# Altium footprint library CPU.PcbLib: 75 footprints (part 5 of 5)
Each footprint in its own frame and in the unit in brackets; x right, y up, seen from the top. Pads: shape width x height; smd on the part's side, far side on the other; paste and mask are expansions set on the pad; w line width, h text height; cw(c..) or ccw(c..) is an arc to the next point about the centre after c.
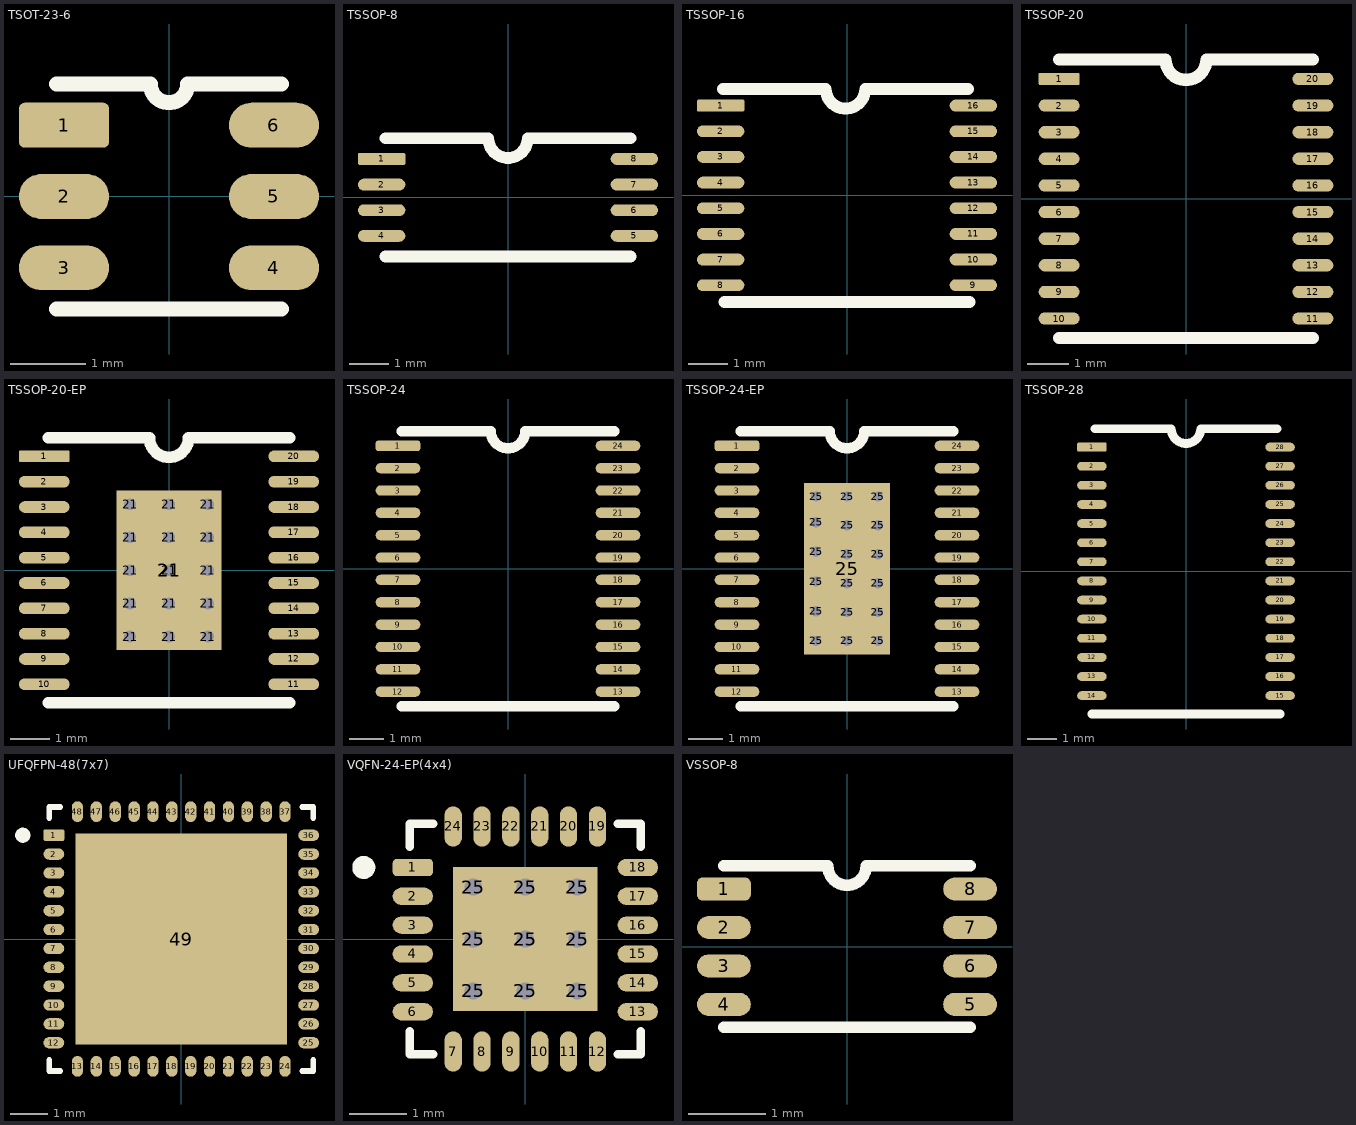
[diagram p4: the footprints below, top view; thin cyan lines are the x and y axes]

## TSOT-23-6 [mm]
pads (6):
  rrect25% 1.2x0.6 smd: 1(-1.4,0.95)
  oval 1.2x0.6 smd: 2(-1.4,0) 3(-1.4,-0.95) 4(1.4,-0.95) 5(1.4,0) 6(1.4,0.95)
Top Overlay:
  lines w0.2: -1.5,-1.5 1.5,-1.5 ; -1.5,1.5 -0.25,1.5 ccw(c0,1.5) 0.25,1.5 1.5,1.5
3D body "TSOT-23-6.STEP": height 1, standoff 0, extent -1.4,-1.45 1.4,1.45

## TSSOP-8 [mm]
pads (8):
  rrect25% 1.2x0.3 smd: 1(-3.2,0.975)
  oval 1.2x0.3 smd: 2(-3.2,0.325) 3(-3.2,-0.325) 4(-3.2,-0.975) 5(3.2,-0.975) 6(3.2,-0.325) 7(3.2,0.325) 8(3.2,0.975)
Top Overlay:
  lines w0.3: -3.1,-1.5 3.1,-1.5 ; -3.1,1.5 -0.5,1.5 ccw(c0,1.5) 0.5,1.5 3.1,1.5
3D body "step_temp.STEP": height 1.2, standoff 0, extent -3.2,-1.5 3.2,1.5

## TSSOP-16 [mm]
pads (16):
  rrect25% 1.2x0.3 smd: 1(-3.2,2.275)
  oval 1.2x0.3 smd: 2(-3.2,1.625) 3(-3.2,0.975) 4(-3.2,0.325) 5(-3.2,-0.325) 6(-3.2,-0.975) 7(-3.2,-1.625) 8(-3.2,-2.275) 9(3.2,-2.275) 10(3.2,-1.625) 11(3.2,-0.975) 12(3.2,-0.325) 13(3.2,0.325) 14(3.2,0.975) 15(3.2,1.625) 16(3.2,2.275)
Top Overlay:
  lines w0.3: -3.138,2.7 -0.538,2.7 ccw(c-0.038,2.7) 0.462,2.7 3.062,2.7 ; -3.1,-2.7 3.1,-2.7
3D body "TSC2003IPWR.step": height 1.2, standoff 0, extent -3.2,-2.5 3.2,2.5

## TSSOP-20 [mm]
pads (20):
  rrect25% 1x0.3 smd: 1(-3.1,2.925)
  oval 1x0.3 smd: 2(-3.1,2.275) 3(-3.1,1.625) 4(-3.1,0.975) 5(-3.1,0.325) 6(-3.1,-0.325) 7(-3.1,-0.975) 8(-3.1,-1.625) 9(-3.1,-2.275) 10(-3.1,-2.925) 11(3.1,-2.925) 12(3.1,-2.275) 13(3.1,-1.625) 14(3.1,-0.975) 15(3.1,-0.325) 16(3.1,0.325) 17(3.1,0.975) 18(3.1,1.625) 19(3.1,2.275) 20(3.1,2.925)
Top Overlay:
  lines w0.3: -3.1,-3.4 3.1,-3.4 ; -3.1,3.4 -0.5,3.4 ccw(c0,3.4) 0.5,3.4 3.1,3.4
3D body "step_temp.STEP": height 1.1, standoff 0, extent -3.2,-3.25 3.2,3.25

## TSSOP-20-EP [mm]
pads (36):
  rrect25% 1.3x0.3 smd: 1(-3.2,2.925)
  oval 1.3x0.3 smd: 2(-3.2,2.275) 3(-3.2,1.625) 4(-3.2,0.975) 5(-3.2,0.325) 6(-3.2,-0.325) 7(-3.2,-0.975) 8(-3.2,-1.625) 9(-3.2,-2.275) 10(-3.2,-2.925) 11(3.2,-2.925) 12(3.2,-2.275) 13(3.2,-1.625) 14(3.2,-0.975) 15(3.2,-0.325) 16(3.2,0.325) 17(3.2,0.975) 18(3.2,1.625) 19(3.2,2.275) 20(3.2,2.925)
  round 0.5 hole 0.3: 21(-1,-1.7) 21(-1,-0.85) 21(-1,0) 21(-1,0.85) 21(-1,1.7) 21(0,-1.7) 21(0,-0.85) 21(0,0) 21(0,0.85) 21(0,1.7) 21(1,-1.7) 21(1,-0.85) 21(1,0) 21(1,0.85) 21(1,1.7)
  rect 2.7x4.1 smd paste-3: 21(0,0)
Top Overlay:
  lines w0.3: -3.1,-3.4 3.1,-3.4 ; -3.1,3.4 -0.5,3.4 ccw(c0,3.4) 0.5,3.4 3.1,3.4
Top Paste:
  region: 0.867,-1.245 -0.867,-1.245 -0.867,1.245 0.867,1.245
3D body "step_temp.STEP": height 1.1, standoff 0, extent -3.2,-3.25 3.2,3.25

## TSSOP-24 [mm]
pads (24):
  rrect50% 1.3x0.3 smd: 1(-3.2,3.575)
  oval 1.3x0.3 smd: 2(-3.2,2.925) 3(-3.2,2.275) 4(-3.2,1.625) 5(-3.2,0.975) 6(-3.2,0.325) 7(-3.2,-0.325) 8(-3.2,-0.975) 9(-3.2,-1.625) 10(-3.2,-2.275) 11(-3.2,-2.925) 12(-3.2,-3.575) 13(3.2,-3.575) 14(3.2,-2.925) 15(3.2,-2.275) 16(3.2,-1.625) 17(3.2,-0.972) 18(3.2,-0.325) 19(3.2,0.325) 20(3.2,0.975) 21(3.2,1.625) 22(3.2,2.275) 23(3.2,2.925) 24(3.2,3.575)
Top Overlay:
  lines w0.3: -3.1,-4 3.1,-4 ; -3.1,4 -0.5,4 ccw(c0,4) 0.5,4 3.1,4
3D body "TSSOP-24.step": height 0.93, standoff 0.01, extent -3.153,-3.95 3.253,3.95

## TSSOP-24-EP [mm]
pads (43):
  rrect50% 1.3x0.3 smd: 1(-3.2,3.575)
  oval 1.3x0.3 smd: 2(-3.2,2.925) 3(-3.2,2.275) 4(-3.2,1.625) 5(-3.2,0.975) 6(-3.2,0.325) 7(-3.2,-0.325) 8(-3.2,-0.975) 9(-3.2,-1.625) 10(-3.2,-2.275) 11(-3.2,-2.925) 12(-3.2,-3.575) 13(3.2,-3.575) 14(3.2,-2.925) 15(3.2,-2.275) 16(3.2,-1.625) 17(3.2,-0.972) 18(3.2,-0.325) 19(3.2,0.325) 20(3.2,0.975) 21(3.2,1.625) 22(3.2,2.275) 23(3.2,2.925) 24(3.2,3.575)
  round 0.5 hole 0.3: 25(-0.9,-2.1) 25(-0.9,-1.236) 25(-0.9,-0.373) 25(-0.9,0.491) 25(-0.9,1.355) 25(-0.9,2.1) 25(0,-2.1) 25(0,-1.26) 25(0,-0.42) 25(0,0.42) 25(0,1.26) 25(0,2.1) 25(0.9,-2.1) 25(0.9,-1.26) 25(0.9,-0.42) 25(0.9,0.42) 25(0.9,1.26) 25(0.9,2.1)
  rect 2.5x5 smd: 25(0,0)
Top Overlay:
  lines w0.3: -3.1,-4 3.1,-4 ; -3.1,4 -0.5,4 ccw(c0,4) 0.5,4 3.1,4
3D body "TSSOP-24.step": height 0.93, standoff 0.01, extent -3.203,-3.95 3.203,3.95

## TSSOP-28 [mm]
pads (28):
  rrect25% 1x0.3 smd paste+0 mask+0.102: 1(-3.2,4.225)
  oval 1x0.3 smd paste+0 mask+0.102: 2(-3.2,3.575) 3(-3.2,2.925) 4(-3.2,2.275) 5(-3.2,1.625) 6(-3.2,0.975) 7(-3.2,0.325) 8(-3.2,-0.325) 9(-3.2,-0.975) 10(-3.2,-1.625) 11(-3.2,-2.275) 12(-3.2,-2.925) 13(-3.2,-3.575) 14(-3.2,-4.225) 15(3.2,-4.225) 16(3.2,-3.575) 17(3.2,-2.925) 18(3.2,-2.275) 19(3.2,-1.625) 20(3.2,-0.975) 21(3.2,-0.325) 22(3.2,0.325) 23(3.2,0.975) 24(3.2,1.625) 25(3.2,2.275) 26(3.2,2.925) 27(3.2,3.575) 28(3.2,4.225)
Top Overlay:
  lines w0.3: -3.2,-4.85 3.2,-4.85 ; -3.1,4.85 -0.5,4.85 ccw(c0,4.85) 0.5,4.85 3.1,4.85
3D body "FT260S-U--3DModel-STEP-455599.STEP": height 1.2, standoff 0, extent -3.2,-4.85 3.2,4.85

## UFQFPN-48(7x7) [mm]
pads (49):
  rrect25% 0.55x0.3 smd: 1(-3.375,2.75)
  oval 0.55x0.3 smd: 2(-3.375,2.25) 3(-3.375,1.75) 4(-3.375,1.25) 5(-3.375,0.75) 6(-3.375,0.25) 7(-3.375,-0.25) 8(-3.375,-0.75) 9(-3.375,-1.25) 10(-3.375,-1.75) 11(-3.375,-2.25) 12(-3.375,-2.75) 25(3.375,-2.75) 26(3.375,-2.25) 27(3.375,-1.75) 28(3.375,-1.25) 29(3.375,-0.75) 30(3.375,-0.25) 31(3.375,0.25) 32(3.375,0.75) 33(3.375,1.25) 34(3.375,1.75) 35(3.375,2.25) 36(3.375,2.75)
  oval 0.3x0.55 smd: 13(-2.75,-3.375) 14(-2.25,-3.375) 15(-1.75,-3.375) 16(-1.25,-3.375) 17(-0.75,-3.375) 18(-0.25,-3.375) 19(0.25,-3.375) 20(0.75,-3.375) 21(1.25,-3.375) 22(1.75,-3.375) 23(2.25,-3.375) 24(2.75,-3.375) 37(2.75,3.375) 38(2.25,3.375) 39(1.75,3.375) 40(1.25,3.375) 41(0.75,3.375) 42(0.25,3.375) 43(-0.25,3.375) 44(-0.75,3.375) 45(-1.25,3.375) 46(-1.75,3.375) 47(-2.25,3.375) 48(-2.75,3.375)
  rect 5.6x5.6 smd paste-4: 49(0,0)
Top Overlay:
  circle w0.2: c-4.2,2.75 r0.1
  lines w0.15: -3.5,-3.205 -3.5,-3.5 -3.205,-3.5 ; -3.5,3.205 -3.5,3.5 -3.205,3.5 ; 3.205,-3.5 3.5,-3.5 3.5,-3.205 ; 3.205,3.5 3.5,3.5 3.5,3.205
Top Paste:
  region: 2.29,-2.29 0.51,-2.29 0.51,-0.51 2.29,-0.51
  region: -0.51,-2.29 -2.29,-2.29 -2.29,-0.51 -0.51,-0.51
  region: 2.29,0.51 0.51,0.51 0.51,2.29 2.29,2.29
  region: -0.51,0.51 -2.29,0.51 -2.29,2.29 -0.51,2.29
3D body "STM32F411CEU6--3DModel-STEP-56544.STEP": height 0.6, standoff 0, extent -3.5,-3.5 3.5,3.5

## VQFN-24-EP(4x4) [mm]
pads (34):
  rrect50% 0.7x0.3 smd mask+0.05: 1(-1.95,1.24)
  oval 0.7x0.3 smd mask+0.05: 2(-1.95,0.74) 3(-1.95,0.24) 4(-1.95,-0.26) 5(-1.95,-0.76) 6(-1.95,-1.26) 13(1.95,-1.26) 14(1.95,-0.76) 15(1.95,-0.26) 16(1.95,0.24) 17(1.95,0.74) 18(1.95,1.24)
  oval 0.3x0.7 smd mask+0.05: 7(-1.25,-1.95) 8(-0.75,-1.95) 9(-0.25,-1.95) 10(0.25,-1.95) 11(0.75,-1.95) 12(1.25,-1.95) 19(1.25,1.95) 20(0.75,1.95) 21(0.25,1.95) 22(-0.25,1.95) 23(-0.75,1.95) 24(-1.25,1.95)
  round 0.5 hole 0.3: 25(-0.9,-0.9) 25(-0.9,0) 25(-0.9,0.9) 25(0,-0.9) 25(0,0) 25(0,0.9) 25(0.9,-0.9) 25(0.9,0) 25(0.9,0.9)
  rect 2.5x2.5 smd mask+0.05: 25(0,0)
Top Overlay:
  circle w0.2: c-2.8,1.24 r0.1
  lines w0.15: -2,-1.6 -2,-2 -1.6,-2 ; -2,1.6 -2,2 -1.6,2 ; 1.6,-2 2,-2 2,-1.6 ; 1.6,2 2,2 2,1.6
3D body "TPS650531RGER.STEP": height 1, standoff 0, extent -2,-2 2,2

## VSSOP-8 [mm]
pads (8):
  rrect50% 0.7x0.3 smd mask+0.05: 1(-1.6,0.75)
  oval 0.7x0.3 smd mask+0.05: 2(-1.6,0.25) 3(-1.6,-0.25) 4(-1.6,-0.75) 5(1.6,-0.75) 6(1.6,-0.25) 7(1.6,0.25) 8(1.6,0.75)
Top Overlay:
  lines w0.15: -1.6,-1.05 1.6,-1.05 ; -1.6,1.05 -0.25,1.05 ccw(c0,1.05) 0.25,1.05 1.6,1.05
3D body "SOP-8p.STEP": height 0.9, standoff 0, extent -1.6,-1.05 1.6,1.05